# Altium schematic symbol library connector.SchLib: 21 symbols
Pins are listed as number, name and electrical type; pins without a type are passive.

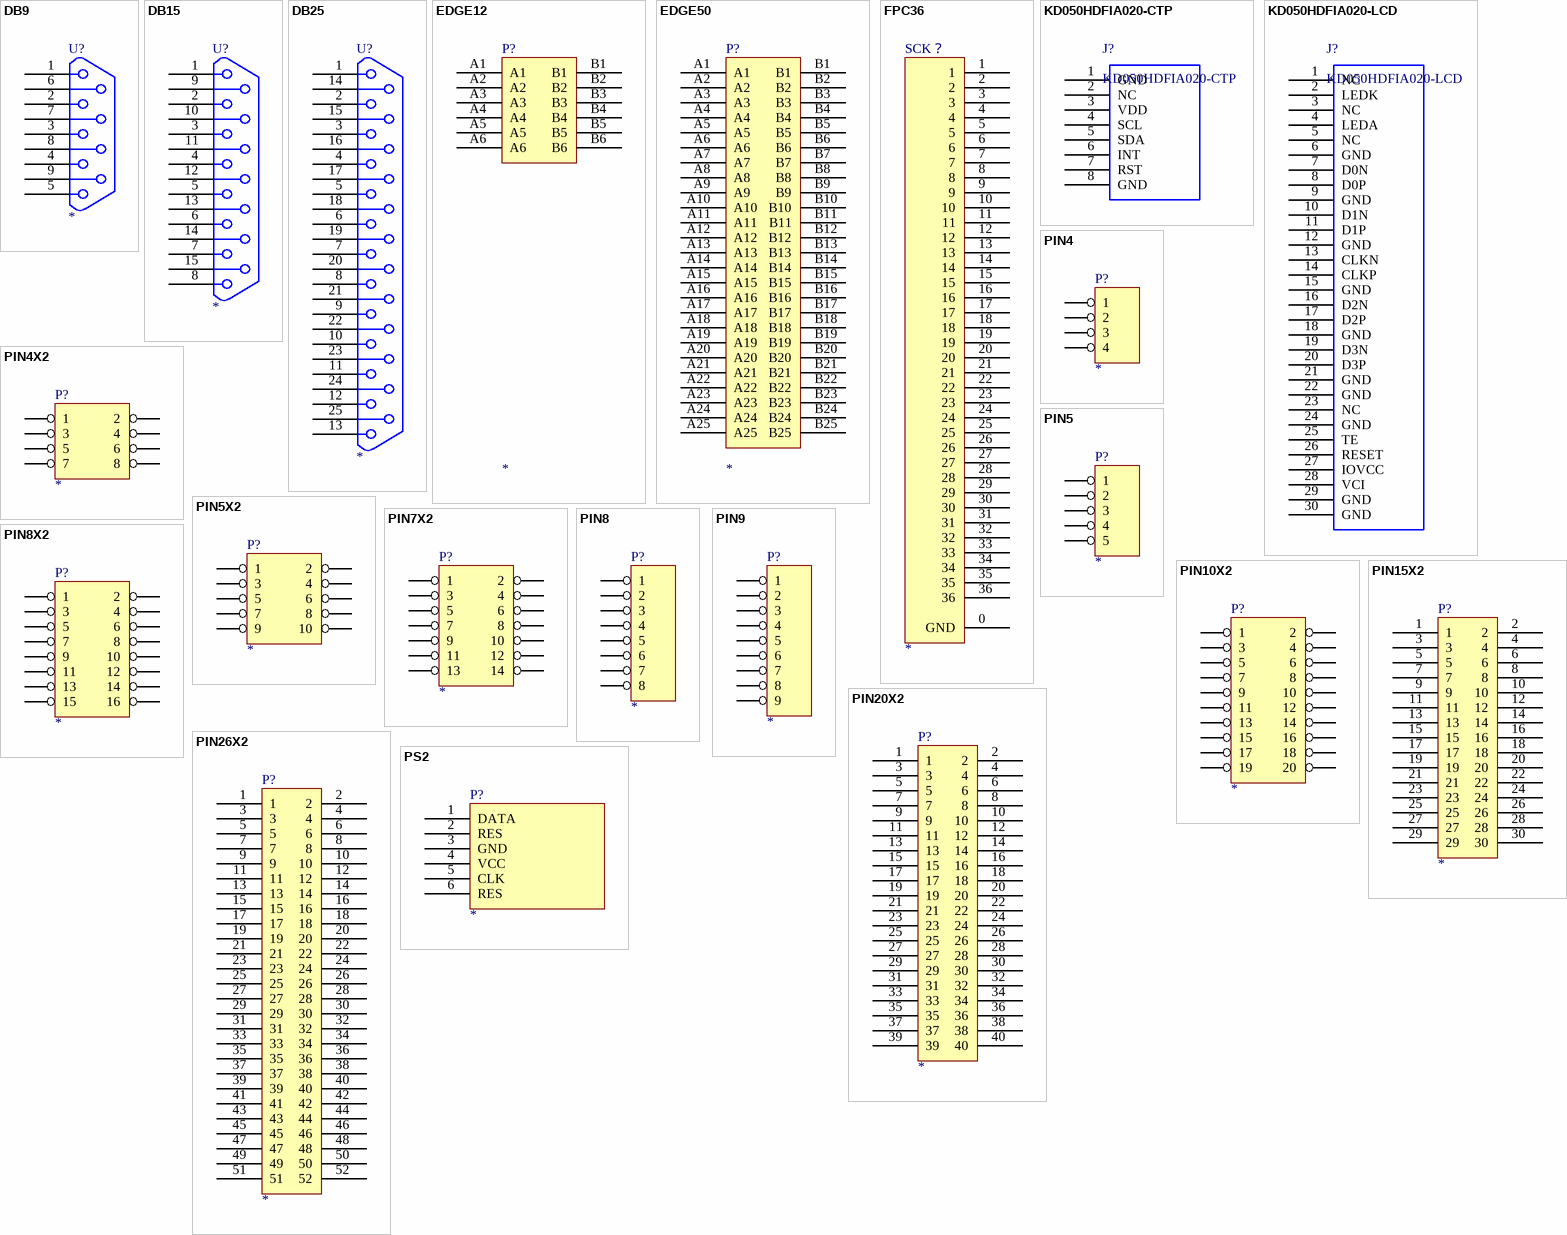
[diagram p0: symbols DB9 to PS2]

## DB9
designator U?
footprint DB-9/M
footprint DB-9/F
footprint DB-9/ME
footprint DB-9/FE
pins: 1, 2, 3, 4, 5, 6, 7, 8, 9

## DB15
designator U?
footprint DB-15/M
footprint DB-15/F
pins: 1, 2, 3, 4, 5, 6, 7, 8, 9, 10, 11, 12, 13, 14, 15

## DB25
designator U?
footprint DB-25/M
footprint DB-25/F
pins: 1, 2, 3, 4, 5, 6, 7, 8, 9, 10, 11, 12, 13, 14, 15, 16, 17, 18, 19, 20, 21, 22, 23, 24, 25

## EDGE12
designator P?
footprint EDGE-ACC-3.96-12 (Footprint not found)
footprint EDGE-3.96-12
pins: A1, A2, A3, A4, A5, A6, B1, B2, B3, B4, B5, B6

## EDGE50
designator P?
footprint EDGE-ACC-2.54-50
footprint EDGE-2.54-50
pins: A1, A2, A3, A4, A5, A6, A7, A8, A9, A10, A11, A12, A13, A14, A15, A16, A17, A18, A19, A20, A21, A22, A23, A24, A25, B1, B2, B3, B4, B5, B6, B7, B8, B9, B10, B11, B12, B13, B14, B15, B16, B17, B18, B19, B20, B21, B22, B23, B24, B25

## FPC36
designator SCK？
footprint FPC05-36
pins: 0 GND, 1, 2, 3, 4, 5, 6, 7, 8, 9, 10, 11, 12, 13, 14, 15, 16, 17, 18, 19, 20, 21, 22, 23, 24, 25, 26, 27, 28, 29, 30, 31, 32, 33, 34, 35, 36

## KD050HDFIA020-CTP
designator J?
footprint FPC05-08S (FPC下接触)
footprint FPC05-08X (FPC下接触)
pins: 1 GND, 2 NC, 3 VDD, 4 SCL, 5 SDA, 6 INT, 7 RST, 8 GND

## KD050HDFIA020-LCD
designator J?
footprint FPC05-30S (FPC上接触)
footprint FPC05-30X (FPC下接触)
pins: 1 NC, 2 LEDK, 3 NC, 4 LEDA, 5 NC, 6 GND, 7 D0N, 8 D0P, 9 GND, 10 D1N, 11 D1P, 12 GND, 13 CLKN, 14 CLKP, 15 GND, 16 D2N, 17 D2P, 18 GND, 19 D3N, 20 D3P, 21 GND, 22 GND, 23 NC, 24 GND, 25 TE, 26 RESET, 27 IOVCC, 28 VCI, 29 GND, 30 GND

## PIN4
designator P?
code: *
footprint PH20-4
pins: 1, 2, 3, 4

## PIN4X2
designator P?
code: *
footprint IDC-8
footprint IDS-8
footprint IDC-8A
footprint IDS-8A
pins: 1, 2, 3, 4, 5, 6, 7, 8

## PIN5
designator P?
code: *
footprint PH20-5
pins: 1, 2, 3, 4, 5

## PIN5X2
designator P?
footprint IDC-10
footprint IDS-10
footprint IDC-10A
footprint IDS-10A
pins: 1, 2, 3, 4, 5, 6, 7, 8, 9, 10

## PIN7X2
designator P?
footprint IDC-14
footprint IDS-14
footprint IDC-14A
footprint IDS-14A
pins: 1, 2, 3, 4, 5, 6, 7, 8, 9, 10, 11, 12, 13, 14

## PIN8
designator P?
code: *
footprint PH20-8
footprint CON-.1/8
pins: 1, 2, 3, 4, 5, 6, 7, 8

## PIN8X2
designator P?
footprint IDC-16
footprint IDS-16
footprint IDC-16A
footprint IDS-16A
pins: 1, 2, 3, 4, 5, 6, 7, 8, 9, 10, 11, 12, 13, 14, 15, 16

## PIN9
designator P?
code: *
footprint PH20-9
pins: 1, 2, 3, 4, 5, 6, 7, 8, 9

## PIN10X2
designator P?
footprint IDC-20
footprint IDS-20
footprint IDC-20A
footprint IDS-20A
pins: 1, 2, 3, 4, 5, 6, 7, 8, 9, 10, 11, 12, 13, 14, 15, 16, 17, 18, 19, 20

## PIN15X2
designator P?
footprint IDC-30
footprint IDS-30
footprint IDC-30A
footprint IDS-30A
pins: 1, 2, 3, 4, 5, 6, 7, 8, 9, 10, 11, 12, 13, 14, 15, 16, 17, 18, 19, 20, 21, 22, 23, 24, 25, 26, 27, 28, 29, 30

## PIN20X2
designator P?
footprint IDC-40
footprint IDS-40
footprint IDC-40A
footprint IDS-40A
pins: 1, 2, 3, 4, 5, 6, 7, 8, 9, 10, 11, 12, 13, 14, 15, 16, 17, 18, 19, 20, 21, 22, 23, 24, 25, 26, 27, 28, 29, 30, 31, 32, 33, 34, 35, 36, 37, 38, 39, 40

## PIN26X2
designator P?
footprint IDC-52
footprint IDS-52
footprint IDC-52A
footprint IDS-52A
pins: 1, 2, 3, 4, 5, 6, 7, 8, 9, 10, 11, 12, 13, 14, 15, 16, 17, 18, 19, 20, 21, 22, 23, 24, 25, 26, 27, 28, 29, 30, 31, 32, 33, 34, 35, 36, 37, 38, 39, 40, 41, 42, 43, 44, 45, 46, 47, 48, 49, 50, 51, 52

## PS2
designator P?
footprint PS2
pins: 1 DATA, 2 RES, 3 GND, 4 VCC, 5 CLK, 6 RES